# Altium footprint library CSP_BGA.PcbLib: 8 footprints
Each footprint in its own frame and in the unit in brackets; x right, y up, seen from the top. Pads: shape width x height; smd on the part's side, far side on the other; paste and mask are expansions set on the pad; w line width, h text height; cw(c..) or ccw(c..) is an arc to the next point about the centre after c.
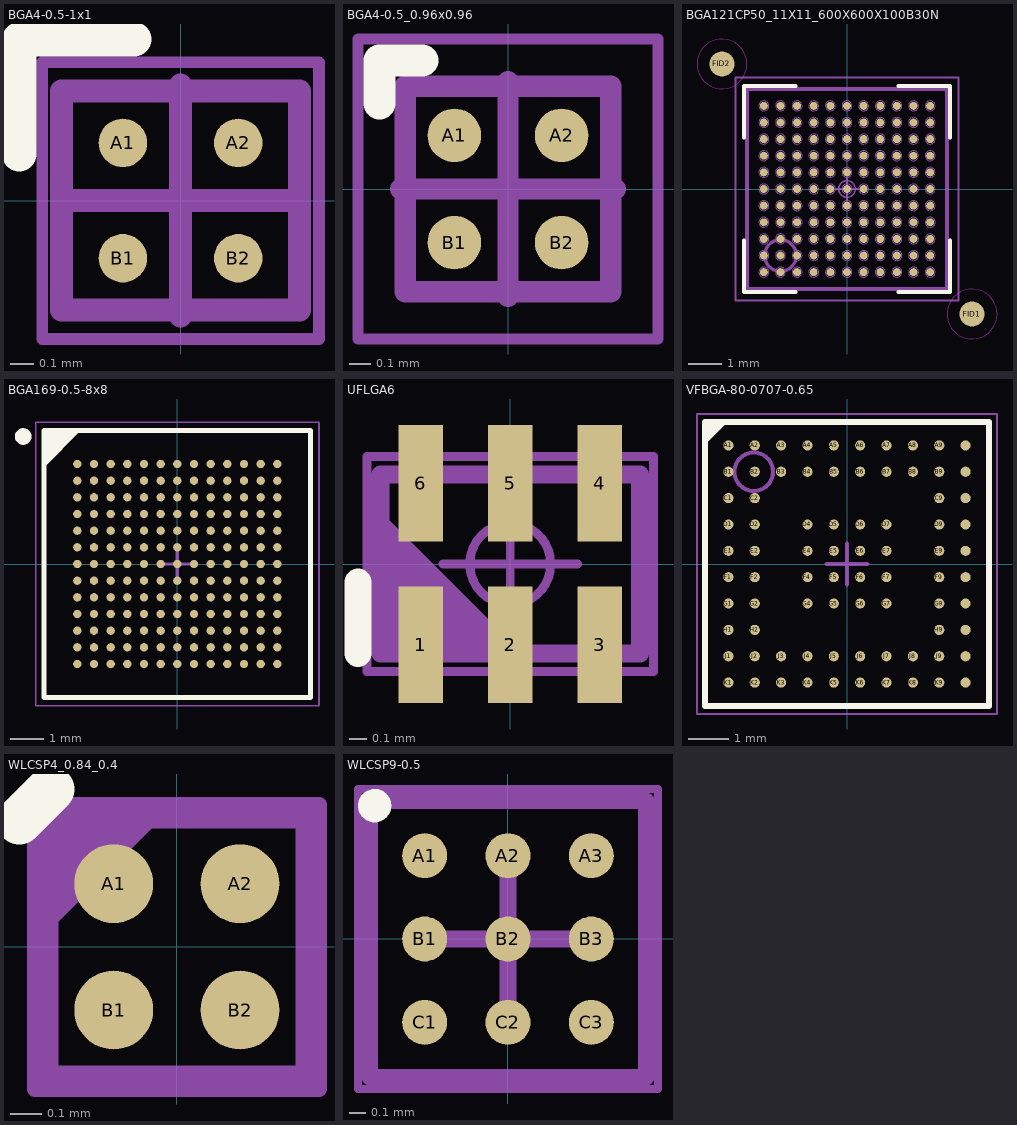
[diagram p0: the footprints below, top view; thin cyan lines are the x and y axes]

## BGA4-0.5-1x1 [mm] "BGA, 4-Leads, Body 1,03x0,95mmx0,35mm, Pitch 0,50mm"
height 0.35
pads (4):
  round 0.21 smd: A1(-0.25,0.25) A2(0.25,0.25) B1(-0.25,-0.25) B2(0.25,-0.25)
Top Overlay:
  lines w0.15: -0.7,0.2 -0.7,0.7 -0.2,0.7
Mechanical 13:
  lines w0.1: -0.515,-0.475 0.515,-0.475 0.515,0.475 -0.515,0.475 -0.515,-0.475
Mechanical 15:
  lines w0.05: -0.6,-0.6 0.6,-0.6 0.6,0.6 -0.6,0.6 -0.6,-0.6
  lines w0.1: -0.5,0 0.5,0 ; 0,-0.5 0,0.5
3D body "BGA4C50P2X2_103X95X35.step": height 0.35, standoff 0, extent -0.515,-0.475 0.515,0.475

## BGA4-0.5_0.96x0.96 [mm] "BGA, 4-Leads, Body 0,96x0,96mmx0,63mm, Pitch 0,50mm"
height 0.63
pads (4):
  round 0.25 smd: A1(-0.25,0.25) A2(0.25,0.25) B1(-0.25,-0.25) B2(0.25,-0.25)
Top Overlay:
  lines w0.15: -0.6,0.4 -0.6,0.6 -0.4,0.6
Mechanical 13:
  lines w0.1: -0.48,-0.48 -0.48,0.48 0.48,0.48 0.48,-0.48 -0.48,-0.48
Mechanical 15:
  lines w0.05: -0.7,-0.7 -0.7,0.7 0.7,0.7 0.7,-0.7 -0.7,-0.7
  lines w0.1: -0.5,0 0.5,0 ; 0,-0.5 0,0.5
3D body "BGA4C50P2X2_96X96X62.step": height 0.63, standoff 0, extent -0.48,-0.48 0.48,0.48

## BGA121CP50_11X11_600X600X100B30N [mm] "Ball Grid Array (BGA), 0.50 mm pitch, square; 121 pin, 6.00 mm L X 6.00 mm W X 1.00 mm H body"
height 1
pads (123):
  round 0.24 smd: A1(-2.5,-2.5) A2(-2.5,-2) A3(-2.5,-1.5) A4(-2.5,-1) A5(-2.5,-0.5) A6(-2.5,0) A7(-2.5,0.5) A8(-2.5,1) A9(-2.5,1.5) A10(-2.5,2) A11(-2.5,2.5) B1(-2,-2.5) B2(-2,-2) B3(-2,-1.5) B4(-2,-1) B5(-2,-0.5) B6(-2,0) B7(-2,0.5) B8(-2,1) B9(-2,1.5) B10(-2,2) B11(-2,2.5) C1(-1.5,-2.5) C2(-1.5,-2) C3(-1.5,-1.5) C4(-1.5,-1) C5(-1.5,-0.5) C6(-1.5,0) C7(-1.5,0.5) C8(-1.5,1) C9(-1.5,1.5) C10(-1.5,2) C11(-1.5,2.5) D1(-1,-2.5) D2(-1,-2) D3(-1,-1.5) D4(-1,-1) D5(-1,-0.5) D6(-1,0) D7(-1,0.5) D8(-1,1) D9(-1,1.5) D10(-1,2) D11(-1,2.5) E1(-0.5,-2.5) E2(-0.5,-2) E3(-0.5,-1.5) E4(-0.5,-1) E5(-0.5,-0.5) E6(-0.5,0) E7(-0.5,0.5) E8(-0.5,1) E9(-0.5,1.5) E10(-0.5,2) E11(-0.5,2.5) F1(0,-2.5) F2(0,-2) F3(0,-1.5) F4(0,-1) F5(0,-0.5) F6(0,0) F7(0,0.5) F8(0,1) F9(0,1.5) F10(0,2) F11(0,2.5) G1(0.5,-2.5) G2(0.5,-2) G3(0.5,-1.5) G4(0.5,-1) G5(0.5,-0.5) G6(0.5,0) G7(0.5,0.5) G8(0.5,1) G9(0.5,1.5) G10(0.5,2) G11(0.5,2.5) H1(1,-2.5) H2(1,-2) H3(1,-1.5) H4(1,-1) H5(1,-0.5) H6(1,0) H7(1,0.5) H8(1,1) H9(1,1.5) H10(1,2) H11(1,2.5) J1(1.5,-2.5) J2(1.5,-2) J3(1.5,-1.5) J4(1.5,-1) J5(1.5,-0.5) J6(1.5,0) J7(1.5,0.5) J8(1.5,1) J9(1.5,1.5) J10(1.5,2) J11(1.5,2.5) K1(2,-2.5) K2(2,-2) K3(2,-1.5) K4(2,-1) K5(2,-0.5) K6(2,0) K7(2,0.5) K8(2,1) K9(2,1.5) K10(2,2) K11(2,2.5) L1(2.5,-2.5) L2(2.5,-2) L3(2.5,-1.5) L4(2.5,-1) L5(2.5,-0.5) L6(2.5,0) L7(2.5,0.5) L8(2.5,1) L9(2.5,1.5) L10(2.5,2) L11(2.5,2.5)
  round 0.75 smd paste-0.75 mask+0.375: FID1(3.76,-3.76) FID2(-3.76,3.76)
Top Layer keep-out:
  circle w0.025: c3.76,-3.76 r0.75
  circle w0.025: c-3.76,3.76 r0.75
Top Overlay:
  lines w0.12: -3.1,-1.55 -3.1,-3.1 -1.55,-3.1 ; -3.1,1.55 -3.1,3.1 -1.55,3.1 ; 1.55,-3.1 3.1,-3.1 3.1,-1.55 ; 1.55,3.1 3.1,3.1 3.1,1.55
Mechanical 12:
  circle w0.025: c-2.5,-2.5 r0.15
  circle w0.025: c-2.5,-2 r0.15
  circle w0.025: c-2.5,-1.5 r0.15
  circle w0.025: c-2.5,-1 r0.15
  circle w0.025: c-2.5,-0.5 r0.15
  circle w0.025: c-2.5,0 r0.15
  circle w0.025: c-2.5,0.5 r0.15
  circle w0.025: c-2.5,1 r0.15
  circle w0.025: c-2.5,1.5 r0.15
  circle w0.025: c-2.5,2 r0.15
  circle w0.025: c-2.5,2.5 r0.15
  circle w0.025: c-2,-2.5 r0.15
  circle w0.025: c-2,-2 r0.15
  circle w0.025: c-2,-1.5 r0.15
  circle w0.025: c-2,-1 r0.15
  circle w0.025: c-2,-0.5 r0.15
  circle w0.025: c-2,0 r0.15
  circle w0.025: c-2,0.5 r0.15
  circle w0.025: c-2,1 r0.15
  circle w0.025: c-2,1.5 r0.15
  circle w0.025: c-2,2 r0.15
  circle w0.025: c-2,2.5 r0.15
  circle w0.025: c-1.5,-2.5 r0.15
  circle w0.025: c-1.5,-2 r0.15
  circle w0.025: c-1.5,-1.5 r0.15
  circle w0.025: c-1.5,-1 r0.15
  circle w0.025: c-1.5,-0.5 r0.15
  circle w0.025: c-1.5,0 r0.15
  circle w0.025: c-1.5,0.5 r0.15
  circle w0.025: c-1.5,1 r0.15
  circle w0.025: c-1.5,1.5 r0.15
  circle w0.025: c-1.5,2 r0.15
  circle w0.025: c-1.5,2.5 r0.15
  circle w0.025: c-1,-2.5 r0.15
  circle w0.025: c-1,-2 r0.15
  circle w0.025: c-1,-1.5 r0.15
  circle w0.025: c-1,-1 r0.15
  circle w0.025: c-1,-0.5 r0.15
  circle w0.025: c-1,0 r0.15
  circle w0.025: c-1,0.5 r0.15
  circle w0.025: c-1,1 r0.15
  circle w0.025: c-1,1.5 r0.15
  circle w0.025: c-1,2 r0.15
  circle w0.025: c-1,2.5 r0.15
  circle w0.025: c-0.5,-2.5 r0.15
  circle w0.025: c-0.5,-2 r0.15
  circle w0.025: c-0.5,-1.5 r0.15
  circle w0.025: c-0.5,-1 r0.15
  circle w0.025: c-0.5,-0.5 r0.15
  circle w0.025: c-0.5,0 r0.15
  circle w0.025: c-0.5,0.5 r0.15
  circle w0.025: c-0.5,1 r0.15
  circle w0.025: c-0.5,1.5 r0.15
  circle w0.025: c-0.5,2 r0.15
  circle w0.025: c-0.5,2.5 r0.15
  circle w0.025: c0,-2.5 r0.15
  circle w0.025: c0,-2 r0.15
  circle w0.025: c0,-1.5 r0.15
  circle w0.025: c0,-1 r0.15
  circle w0.025: c0,-0.5 r0.15
  circle w0.025: c0,0 r0.15
  circle w0.025: c0,0.5 r0.15
  circle w0.025: c0,1 r0.15
  circle w0.025: c0,1.5 r0.15
  circle w0.025: c0,2 r0.15
  circle w0.025: c0,2.5 r0.15
  circle w0.025: c0.5,-2.5 r0.15
  circle w0.025: c0.5,-2 r0.15
  circle w0.025: c0.5,-1.5 r0.15
  circle w0.025: c0.5,-1 r0.15
  circle w0.025: c0.5,-0.5 r0.15
  circle w0.025: c0.5,0 r0.15
  circle w0.025: c0.5,0.5 r0.15
  circle w0.025: c0.5,1 r0.15
  circle w0.025: c0.5,1.5 r0.15
  circle w0.025: c0.5,2 r0.15
  circle w0.025: c0.5,2.5 r0.15
  circle w0.025: c1,-2.5 r0.15
  circle w0.025: c1,-2 r0.15
  circle w0.025: c1,-1.5 r0.15
  circle w0.025: c1,-1 r0.15
  circle w0.025: c1,-0.5 r0.15
  circle w0.025: c1,0 r0.15
  circle w0.025: c1,0.5 r0.15
  circle w0.025: c1,1 r0.15
  circle w0.025: c1,1.5 r0.15
  circle w0.025: c1,2 r0.15
  circle w0.025: c1,2.5 r0.15
  circle w0.025: c1.5,-2.5 r0.15
  circle w0.025: c1.5,-2 r0.15
  circle w0.025: c1.5,-1.5 r0.15
  circle w0.025: c1.5,-1 r0.15
  circle w0.025: c1.5,-0.5 r0.15
  circle w0.025: c1.5,0 r0.15
  circle w0.025: c1.5,0.5 r0.15
  circle w0.025: c1.5,1 r0.15
  circle w0.025: c1.5,1.5 r0.15
  circle w0.025: c1.5,2 r0.15
  circle w0.025: c1.5,2.5 r0.15
  circle w0.025: c2,-2.5 r0.15
  circle w0.025: c2,-2 r0.15
  circle w0.025: c2,-1.5 r0.15
  circle w0.025: c2,-1 r0.15
  circle w0.025: c2,-0.5 r0.15
  circle w0.025: c2,0 r0.15
  circle w0.025: c2,0.5 r0.15
  circle w0.025: c2,1 r0.15
  circle w0.025: c2,1.5 r0.15
  circle w0.025: c2,2 r0.15
  circle w0.025: c2,2.5 r0.15
  circle w0.025: c2.5,-2.5 r0.15
  circle w0.025: c2.5,-2 r0.15
  circle w0.025: c2.5,-1.5 r0.15
  circle w0.025: c2.5,-1 r0.15
  circle w0.025: c2.5,-0.5 r0.15
  circle w0.025: c2.5,0 r0.15
  circle w0.025: c2.5,0.5 r0.15
  circle w0.025: c2.5,1 r0.15
  circle w0.025: c2.5,1.5 r0.15
  circle w0.025: c2.5,2 r0.15
  circle w0.025: c2.5,2.5 r0.15
  lines w0.025: -3,-3 -3,3 3,3 3,-3 -3,-3
Mechanical 14:
  circle w0.1: c-2,-2 r0.476
  lines w0.12: -3,-3 -3,3 3,3 3,-3 -3,-3
  text ".Designator" at -1.5,-0.4 h1
Mechanical 15:
  circle w0.05: c0,0 r0.25
  lines w0.05: -0.35,0 0.35,0 ; 0,-0.35 0,0.35 ; -3.35,-3.35 -3.35,3.35 3.35,3.35 3.35,-3.35 -3.35,-3.35
3D body "BGA121CP50_11X11_600X600X100B30.STEP": height 1, standoff 0, extent -3,-3 3,3

## BGA169-0.5-8x8 [mm] "BGA, 169-Leads, Body 8,00x8,00mmx0,79mm, Pitch 0,50mm"
height 0.79
pads (169):
  round 0.25 smd: A1(-3,3) A2(-2.5,3) A3(-2,3) A4(-1.5,3) A5(-1,3) A6(-0.5,3) A7(0,3) A8(0.5,3) A9(1,3) A10(1.5,3) A11(2,3) A12(2.5,3) A13(3,3) B1(-3,2.5) B2(-2.5,2.5) B3(-2,2.5) B4(-1.5,2.5) B5(-1,2.5) B6(-0.5,2.5) B7(0,2.5) B8(0.5,2.5) B9(1,2.5) B10(1.5,2.5) B11(2,2.5) B12(2.5,2.5) B13(3,2.5) C1(-3,2) C2(-2.5,2) C3(-2,2) C4(-1.5,2) C5(-1,2) C6(-0.5,2) C7(0,2) C8(0.5,2) C9(1,2) C10(1.5,2) C11(2,2) C12(2.5,2) C13(3,2) D1(-3,1.5) D2(-2.5,1.5) D3(-2,1.5) D4(-1.5,1.5) D5(-1,1.5) D6(-0.5,1.5) D7(0,1.5) D8(0.5,1.5) D9(1,1.5) D10(1.5,1.5) D11(2,1.5) D12(2.5,1.5) D13(3,1.5) E1(-3,1) E2(-2.5,1) E3(-2,1) E4(-1.5,1) E5(-1,1) E6(-0.5,1) E7(0,1) E8(0.5,1) E9(1,1) E10(1.5,1) E11(2,1) E12(2.5,1) E13(3,1) F1(-3,0.5) F2(-2.5,0.5) F3(-2,0.5) F4(-1.5,0.5) F5(-1,0.5) F6(-0.5,0.5) F7(0,0.5) F8(0.5,0.5) F9(1,0.5) F10(1.5,0.5) F11(2,0.5) F12(2.5,0.5) F13(3,0.5) G1(-3,0) G2(-2.5,0) G3(-2,0) G4(-1.5,0) G5(-1,0) G6(-0.5,0) G7(0,0) G8(0.5,0) G9(1,0) G10(1.5,0) G11(2,0) G12(2.5,0) G13(3,0) H1(-3,-0.5) H2(-2.5,-0.5) H3(-2,-0.5) H4(-1.5,-0.5) H5(-1,-0.5) H6(-0.5,-0.5) H7(0,-0.5) H8(0.5,-0.5) H9(1,-0.5) H10(1.5,-0.5) H11(2,-0.5) H12(2.5,-0.5) H13(3,-0.5) J1(-3,-1) J2(-2.5,-1) J3(-2,-1) J4(-1.5,-1) J5(-1,-1) J6(-0.5,-1) J7(0,-1) J8(0.5,-1) J9(1,-1) J10(1.5,-1) J11(2,-1) J12(2.5,-1) J13(3,-1) K1(-3,-1.5) K2(-2.5,-1.5) K3(-2,-1.5) K4(-1.5,-1.5) K5(-1,-1.5) K6(-0.5,-1.5) K7(0,-1.5) K8(0.5,-1.5) K9(1,-1.5) K10(1.5,-1.5) K11(2,-1.5) K12(2.5,-1.5) K13(3,-1.5) L1(-3,-2) L2(-2.5,-2) L3(-2,-2) L4(-1.5,-2) L5(-1,-2) L6(-0.5,-2) L7(0,-2) L8(0.5,-2) L9(1,-2) L10(1.5,-2) L11(2,-2) L12(2.5,-2) L13(3,-2) M1(-3,-2.5) M2(-2.5,-2.5) M3(-2,-2.5) M4(-1.5,-2.5) M5(-1,-2.5) M6(-0.5,-2.5) M7(0,-2.5) M8(0.5,-2.5) M9(1,-2.5) M10(1.5,-2.5) M11(2,-2.5) M12(2.5,-2.5) M13(3,-2.5) N1(-3,-3) N2(-2.5,-3) N3(-2,-3) N4(-1.5,-3) N5(-1,-3) N6(-0.5,-3) N7(0,-3) N8(0.5,-3) N9(1,-3) N10(1.5,-3) N11(2,-3) N12(2.5,-3) N13(3,-3)
Top Overlay:
  circle w0.25: c-4.625,3.825 r0.125
  region: -3,4 -4,3 -4,4
  lines w0.15: -4,3 -3,4 ; -4,-4 -4,4 4,4 4,-4 -4,-4
Mechanical 13:
  lines w0.1: -4,-4 -4,4 4,4 4,-4 -4,-4
Mechanical 15:
  lines w0.05: -4.25,-4.25 -4.25,4.25 4.25,4.25 4.25,-4.25 -4.25,-4.25
  lines w0.1: -0.5,0 0.5,0 ; 0,-0.5 0,0.5
3D body "BGA169C50P13X13_800X800X79.step": height 0.79, standoff 0, extent -4,-4 4,4

## UFLGA6 [mm]
pads (6):
  rect 0.25x0.65 smd: 1(-0.5,-0.45) 2(0,-0.45) 3(0.5,-0.45) 4(0.5,0.45) 5(0,0.45) 6(-0.5,0.45)
Top Overlay:
  lines w0.15: -0.85,-0.5 -0.85,-0.1
Mechanical 14:
  lines w0.1: -0.725,-0.3 -0.525,-0.5 ; -0.725,-0.175 -0.4,-0.5 ; -0.725,-0.05 -0.275,-0.5 ; -0.725,0.05 -0.175,-0.5 ; -0.725,0.15 -0.075,-0.5 ; -0.725,0.225 0,-0.5 ; -0.725,-0.5 -0.725,0.5 0.725,0.5 0.725,-0.5 -0.725,-0.5 ; -0.725,-0.4 -0.625,-0.5 -0.725,-0.4
  text ".Designator" at -0.2,-0.05 h0.3
Mechanical 15:
  circle w0.05: c0,0 r0.226
  lines w0.05: -0.375,0 0.375,0 ; 0,-0.375 0,0.375 ; -0.8,-0.6 0.8,-0.6 0.8,0.6 -0.8,0.6 -0.8,-0.6
3D body: height 0.65, standoff 0.1, extent -0.725,-0.5 0.725,0.5

## VFBGA-80-0707-0.65 [mm] "BGA, 64-Leads, Body 7,00x7,00mmx1,00mm, Pitch 0,65mm"
height 1
pads (80):
  round 0.25 smd: A1(-2.925,2.925) A2(-2.275,2.925) A3(-1.625,2.925) A4(-0.975,2.925) A5(-0.325,2.925) A6(0.325,2.925) A7(0.975,2.925) A8(1.625,2.925) A9(2.275,2.925) A10(2.925,2.925) B1(-2.925,2.275) B2(-2.275,2.275) B3(-1.625,2.275) B4(-0.975,2.275) B5(-0.325,2.275) B6(0.325,2.275) B7(0.975,2.275) B8(1.625,2.275) B9(2.275,2.275) B10(2.925,2.275) C1(-2.925,1.625) C2(-2.275,1.625) C9(2.275,1.625) C10(2.925,1.625) D1(-2.925,0.975) D2(-2.275,0.975) D4(-0.975,0.975) D5(-0.325,0.975) D6(0.325,0.975) D7(0.975,0.975) D9(2.275,0.975) D10(2.925,0.975) E1(-2.925,0.325) E2(-2.275,0.325) E4(-0.975,0.325) E5(-0.325,0.325) E6(0.325,0.325) E7(0.975,0.325) E9(2.275,0.325) E10(2.925,0.325) F1(-2.925,-0.325) F2(-2.275,-0.325) F4(-0.975,-0.325) F5(-0.325,-0.325) F6(0.325,-0.325) F7(0.975,-0.325) F9(2.275,-0.325) F10(2.925,-0.325) G1(-2.925,-0.975) G2(-2.275,-0.975) G4(-0.975,-0.975) G5(-0.325,-0.975) G6(0.325,-0.975) G7(0.975,-0.975) G9(2.275,-0.975) G10(2.925,-0.975) H1(-2.925,-1.625) H2(-2.275,-1.625) H9(2.275,-1.625) H10(2.925,-1.625) J1(-2.925,-2.275) J2(-2.275,-2.275) J3(-1.625,-2.275) J4(-0.975,-2.275) J5(-0.325,-2.275) J6(0.325,-2.275) J7(0.975,-2.275) J8(1.625,-2.275) J9(2.275,-2.275) J10(2.925,-2.275) K1(-2.925,-2.925) K2(-2.275,-2.925) K3(-1.625,-2.925) K4(-0.975,-2.925) K5(-0.325,-2.925) K6(0.325,-2.925) K7(0.975,-2.925) K8(1.625,-2.925) K9(2.275,-2.925) K10(2.925,-2.925)
Top Overlay:
  region: -3.057,3.5 -3.5,3.057 -3.5,3.5
  lines w0.15: -3.5,3.057 -3.057,3.5 ; -3.5,-3.5 -3.5,3.5 3.5,3.5 3.5,-3.5 -3.5,-3.5
Mechanical 14:
  circle w0.1: c-2.3,2.275 r0.476
  lines w0.1: -3.5,-3.5 -3.5,3.5 3.5,3.5 3.5,-3.5 -3.5,-3.5
  text ".Designator" at -1.325,-0.375 h0.75
Mechanical 15:
  lines w0.05: -3.7,-3.7 -3.7,3.7 3.7,3.7 3.7,-3.7 -3.7,-3.7
  lines w0.1: -0.5,0 0.5,0 ; 0,-0.5 0,0.5
3D body "BGA64C65P10X10_700X700X100.step": height 1, standoff 0, extent -3.5,-3.5 3.5,3.5

## WLCSP4_0.84_0.4 [mm]
pads (4):
  round 0.25 smd: A1(-0.2,0.2) A2(0.2,0.2) B1(-0.2,-0.2) B2(0.2,-0.2)
Top Overlay:
  lines w0.15: -0.5,0.4 -0.4,0.5
Mechanical 14:
  lines w0.1: -0.425,0.1 -0.1,0.425 ; -0.425,0.15 -0.15,0.425 ; -0.425,0.2 -0.225,0.4 ; -0.425,0.25 -0.25,0.425 ; -0.425,0.3 -0.325,0.4 -0.325,0.425 ; -0.425,0.35 -0.35,0.425 ; -0.425,-0.425 -0.425,0.425 0.425,0.425 0.425,-0.425 -0.425,-0.425
  text ".Designator" at -0.275,-0.075 h0.17
Mechanical 15:
  lines w0.05: -0.45,-0.45 0.45,-0.45 0.45,0.45 -0.45,0.45 -0.45,-0.45
3D body: height 0.33, standoff 0.1, extent -0.425,-0.425 0.425,0.425

## WLCSP9-0.5 [mm] "BGA, 9-Leads, Body 1,66x1,66mmx0,56mm, Pitch 0,50mm"
height 0.56
pads (9):
  round 0.27 smd: A1(-0.5,0.5) A2(0,0.5) A3(0.5,0.5) B1(-0.5,0) B2(0,0) B3(0.5,0) C1(-0.5,-0.5) C2(0,-0.5) C3(0.5,-0.5)
Top Overlay:
  circle w0.1: c-0.8,0.8 r0.05
Mechanical 13:
  lines w0.1: -0.83,-0.83 0.83,-0.83 0.83,0.83 -0.83,0.83 -0.83,-0.83
Mechanical 15:
  lines w0.05: -0.9,-0.9 0.9,-0.9 0.9,0.9 -0.9,0.9 -0.9,-0.9
  lines w0.1: -0.5,0 0.5,0 ; 0,-0.5 0,0.5
3D body "BGA9C50P3X3_166X166X56.step": height 0.52, standoff -0.04, extent -0.83,-0.83 0.83,0.83